# Altium schematic symbol library TF卡座.SCHLIB: 1 symbol
Pins are listed as number, name and electrical type; pins without a type are passive.

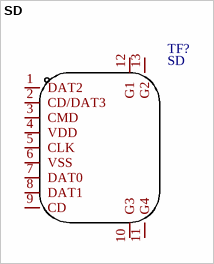
[diagram p0: symbol SD]

## SD
designator TF?
Add into BOM: yes; Symbol: SD; Device: SD; LCSC Part Name: SD; Supplier Part: C9900023771; Manufacturer Part: SD; Supplier Footprint: SIM-SMD; JLCPCB Part Class: 扩展库; Supplier: LCSC; Convert to PCB: yes; Name: SD
footprint TF-SMD_TF-15-15
pins: 1 DAT2, 2 CD/DAT3, 3 CMD, 4 VDD, 5 CLK, 6 VSS, 7 DAT0, 8 DAT1, 9 CD, 10 G3, 11 G4, 12 G1, 13 G2